# EAGLE library part XR-C277 (library exar)
Low voltage REPEATER
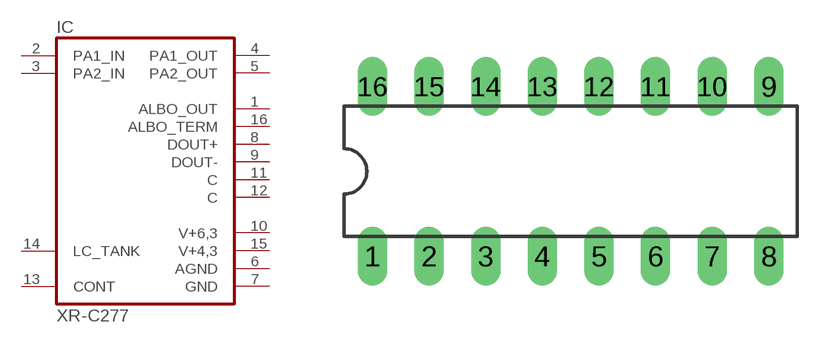
[diagram p9: symbol with the pads of DIL16; footprint DIL16]

Designator prefix IC

## XR-C277 (OC_FARNELL: unknown; OC_NEWARK: unknown)  [DIL16]
1  ALBO_OUT  out
2  PA1_IN  in
3  PA2_IN  in
4  PA1_OUT  out
5  PA2_OUT  out
6  AGND  pwr
7  GND  pwr
8  DOUT+  out
9  DOUT-  out
10  V+6,3  pwr
11  C  out
12  C  out
13  CONT  pas
14  LC_TANK  in
15  V+4,3  pwr
16  ALBO_TERM  out

## Footprint DIL16 (pad centres in mm)
Dual In Line Package
drill 0.813 long: 1 -8.89,-3.81; 2 -6.35,-3.81; 3 -3.81,-3.81; 4 -1.27,-3.81; 5 1.27,-3.81; 6 3.81,-3.81; 7 6.35,-3.81; 8 8.89,-3.81; 9 8.89,3.81; 10 6.35,3.81; 11 3.81,3.81; 12 1.27,3.81; 13 -1.27,3.81; 14 -3.81,3.81; 15 -6.35,3.81; 16 -8.89,3.81